# EAGLE library part MAX16054 (library kwoo)
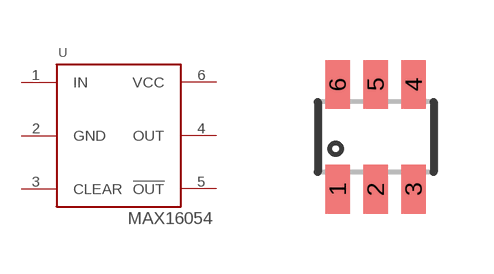
[diagram p55: symbol with the pads of 6-TSOT23; footprint 6-TSOT23]

Designator prefix -

## MAX16054  [6-TSOT23]
1  IN
2  GND
3  CLEAR
4  OUT
5  !OUT
6  VCC

## Footprint 6-TSOT23 (pad centres in mm)
smd 0.62 x 1.22: 1 -0.95,-1.31; 2 0,-1.31; 3 0.95,-1.31; 4 0.95,1.31; 5 0,1.31; 6 -0.95,1.31